# Altium footprint library IC_SMD_DUAL.PCBLIB: 187 footprints (part 12 of 12)
Each footprint in its own frame and in the unit in brackets; x right, y up, seen from the top. Pads: shape width x height; smd on the part's side, far side on the other; paste and mask are expansions set on the pad; w line width, h text height; cw(c..) or ccw(c..) is an arc to the next point about the centre after c.
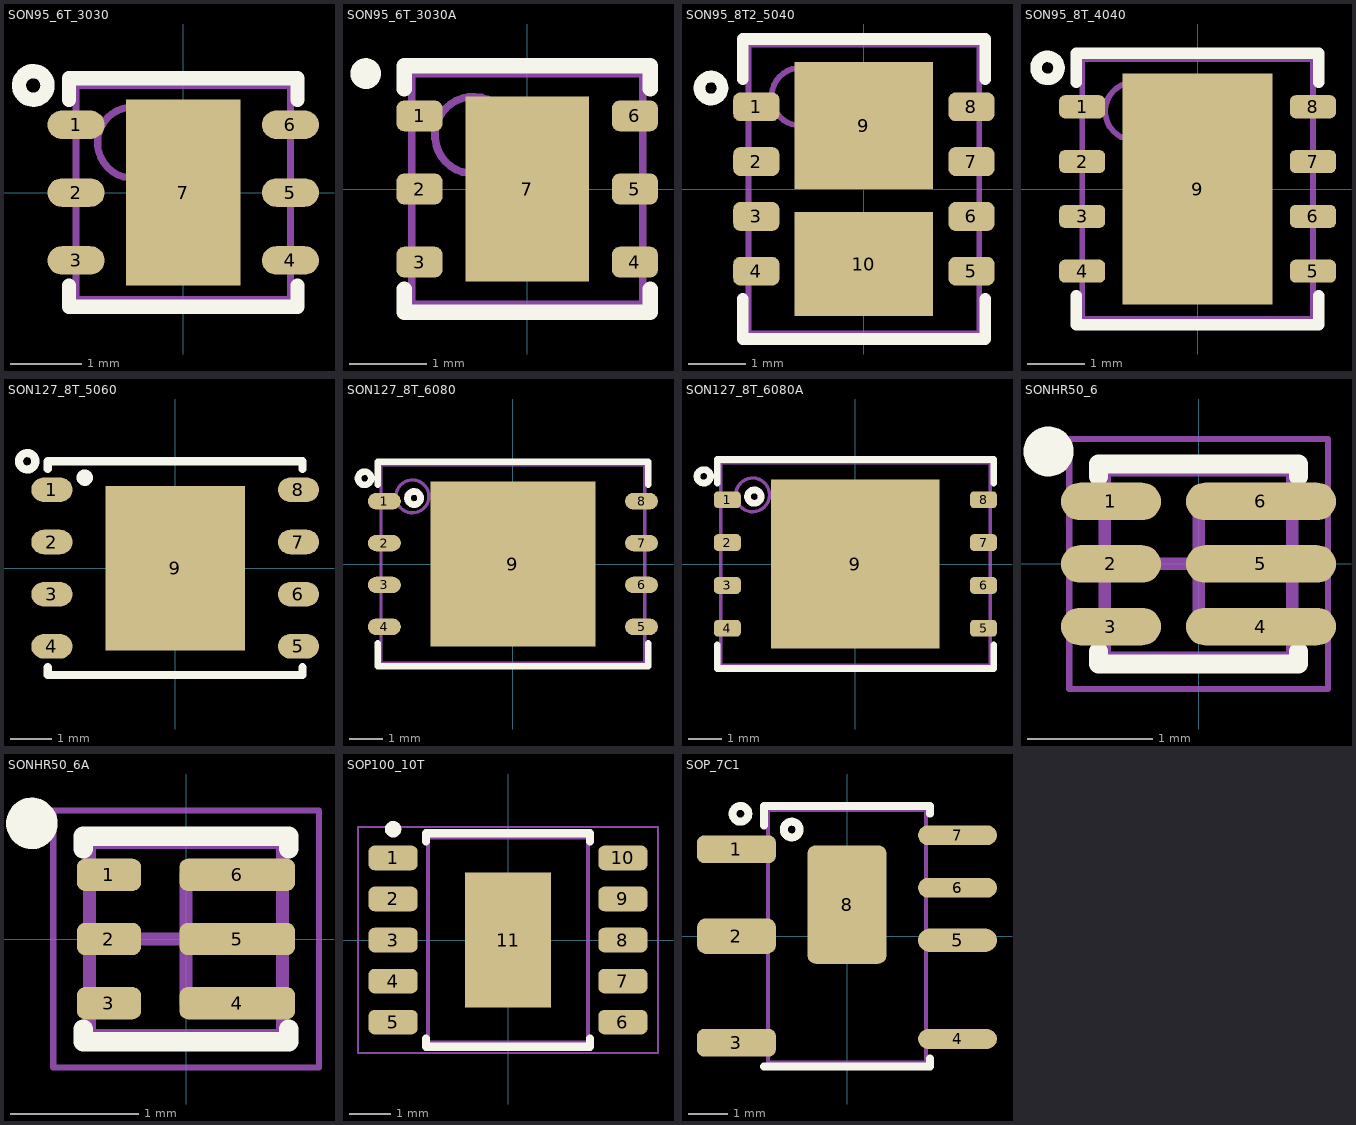
[diagram p11: the footprints below, top view; thin cyan lines are the x and y axes]

## SON95_6T_3030 [mm] "Pitch: 0.95mm 3x3x1.1mm"
height 1.1
pads (7):
  oval 0.8x0.4 smd: 1(-1.5,0.95) 2(-1.5,0) 3(-1.5,-0.95) 4(1.5,-0.95) 5(1.5,0) 6(1.5,0.95)
  rect 1.6x2.6 smd paste-3: 7(0,0)
TopOverlay:
  circle w0.2: c-2.1,1.5 r0.2
  lines w0.2: -1.6,-1.3 -1.6,-1.6 1.6,-1.6 1.6,-1.3 ; -1.6,1.3 -1.6,1.6 1.6,1.6 1.6,1.3
TopPaste:
  rectangle: 0.1,-1.2 0.7,-0.2
  rectangle: 0.1,0.2 0.7,1.2
  rectangle: -0.7,-1.2 -0.1,-0.2
  rectangle: -0.7,0.2 -0.1,1.2
Mechanical13:
  circle w0.1: c-0.7,0.7 r0.5
  lines w0.1: -1.5,-1.5 -1.5,1.5 1.5,1.5 1.5,-1.5 -1.5,-1.5
Mechanical15:
  lines w0.1: -0.5,0 0.5,0 ; 0,-0.5 0,0.5
3D body "User Library-dfn6_3x3_rm0_95.step": height 0.8, standoff 0, extent -1.55,-1.5 1.55,1.5

## SON95_6T_3030A [mm] "Pitch: 0.95mm 3x3x1.1mm"
height 1.1
pads (7):
  rrect50% 0.6x0.4 smd mask+0.075: 1(-1.4,0.95) 2(-1.4,0) 3(-1.4,-0.95) 4(1.4,-0.95) 5(1.4,0) 6(1.4,0.95)
  rect 1.6x2.4 smd paste-3: 7(0,0)
TopOverlay:
  circle w0.2: c-2.1,1.5 r0.1
  lines w0.2: -1.6,-1.3 -1.6,-1.6 1.6,-1.6 1.6,-1.3 ; -1.6,1.3 -1.6,1.6 1.6,1.6 1.6,1.3
TopPaste:
  rectangle: -0.7,0.1 -0.1,1.1
  rectangle: -0.7,-1.1 -0.1,-0.1
  rectangle: 0.1,0.1 0.7,1.1
  rectangle: 0.1,-1.1 0.7,-0.1
Mechanical13:
  circle w0.1: c-0.7,0.7 r0.5
  lines w0.1: -1.5,-1.5 1.5,-1.5 1.5,1.5 -1.5,1.5 -1.5,-1.5
Mechanical15:
  lines w0.1: -0.5,0 0.5,0 ; 0,-0.5 0,0.5
3D body "User Library-dfn6_3x3_rm0_95.step": height 0.8, standoff 0, extent -1.55,-1.5 1.55,1.5

## SON95_8T2_5040 [mm] "5x4A DFN-8, 0.95mm pitch, 5X4X0.8mm"
height 0.8
pads (10):
  rrect50% 0.8x0.5 smd mask+0.075: 1(-1.865,1.425) 2(-1.865,0.475) 3(-1.865,-0.475) 4(-1.865,-1.425) 5(1.865,-1.425) 6(1.865,-0.475) 7(1.865,0.475) 8(1.865,1.425)
  rect 2.4x2.2 smd paste-1.19 mask+0.075: 9(0,1.1)
  rect 2.4x1.8 smd paste-1.19 mask+0.075: 10(0,-1.3)
TopOverlay:
  circle w0.2: c-2.65,1.75 r0.2
  lines w0.2: -2.1,-1.9 -2.1,-2.6 2.1,-2.6 2.1,-1.9 ; -2.1,1.9 -2.1,2.6 2.1,2.6 2.1,1.9
TopPaste:
  rectangle: 0.1,0.1 1.1,0.5
  region: -0.1,0.5 -1.1,0.5 -1.1,0.1 -0.1,0.1
  region: -0.1,-1.4 -1.1,-1.4 -1.1,-2.1 -0.1,-2.1
  region: -0.1,-0.5 -1.1,-0.5 -1.1,-1.2 -0.1,-1.2
  rectangle: 0.1,-1.2 1.1,-0.5
  rectangle: 0.1,-2.1 1.1,-1.4
  region: -0.1,1.5 -1.1,1.5 -1.1,0.7 -0.1,0.7
  rectangle: 0.1,0.7 1.1,1.5
  region: -0.1,2.1 -1.1,2.1 -1.1,1.7 -0.1,1.7
  rectangle: 0.1,1.7 1.1,2.1
Mechanical13:
  circle w0.1: c-1.1,1.6 r0.5
  lines w0.1: -2,-2.5 2,-2.5 2,2.5 -2,2.5 -2,-2.5
3D body "SON95_8T2_5040.step": height 0.8, standoff 0, extent -2.001,-2.5 2.001,2.5

## SON95_8T_4040 [mm] "DFN-8, SON, pitch 0.95mm, 4X4.5X0.75mm"
height 0.75
pads (9):
  rrect50% 0.8x0.4 smd: 1(-2,1.425) 2(-2,0.475) 3(-2,-0.475) 4(-2,-1.425) 5(2,-1.425) 6(2,-0.475) 7(2,0.475) 8(2,1.425)
  rect 2.6x4 smd paste-4: 9(0,0)
TopOverlay:
  circle w0.2: c-2.6,2.1 r0.2
  lines w0.2: -2.1,-1.85 -2.1,-2.35 2.1,-2.35 2.1,-1.85 ; -2.1,1.85 -2.1,2.35 2.1,2.35 2.1,1.85
TopPaste:
  rectangle: 0.2,-1.8 1.1,-0.2
  region: -0.2,-0.2 -1.1,-0.2 -1.1,-1.8 -0.2,-1.8
  region: -0.2,1.8 -1.1,1.8 -1.1,0.2 -0.2,0.2
  rectangle: 0.2,0.2 1.1,1.8
Mechanical13:
  circle w0.1: c-1.1,1.35 r0.5
  lines w0.1: -2,-2.25 2,-2.25 2,2.25 -2,2.25 -2,-2.25
3D body "SON127P600-8N.step": height 0.75, standoff 0, extent -2.05,-2.25 2.05,2.25

## SON127_8T_5060 [mm] "WSON8_6X5"
pads (9):
  oval 1x0.6 smd: 1(-3,1.905) 2(-3,0.635) 3(-3,-0.635) 4(-3,-1.905) 5(3,-1.905) 6(3,-0.635) 7(3,0.635) 8(3,1.905)
  rect 3.4x4 smd paste-5: 9(0,0)
TopOverlay:
  circle w0.2: c-2.2,2.2 r0.1
  circle w0.2: c-3.6,2.6 r0.2
  lines w0.2: -3.1,-2.413 -3.1,-2.6 3.1,-2.6 3.1,-2.413 ; -3.1,2.413 -3.1,2.6 3.1,2.6 3.1,2.413
TopPaste:
  rectangle: -1.5,-1.8 -0.2,-0.2
  region: 1.5,-0.2 0.2,-0.2 0.2,-1.8 1.5,-1.8
  region: 1.5,1.8 0.2,1.8 0.2,0.2 1.5,0.2
  rectangle: -1.5,0.2 -0.2,1.8
3D body "SON127P600-8N.step": height 1, standoff 0, extent -3.05,-2.5 3.05,2.5

## SON127_8T_6080 [mm] "WSON 8, 6X8, pitch: 1.27mm"
height 0.8
pads (9):
  oval 1x0.5 smd: 1(-3.9,1.905) 2(-3.9,0.635) 3(-3.9,-0.635) 4(-3.9,-1.905) 5(3.9,-1.905) 6(3.9,-0.635) 7(3.9,0.635) 8(3.9,1.905)
  rect 5x5 smd paste-5: 9(0,0)
TopOverlay:
  circle w0.2: c-3,2 r0.2
  circle w0.2: c-4.5,2.6 r0.2
  lines w0.2: -4.1,-2.4 -4.1,-3.1 4.1,-3.1 4.1,-2.4 ; -4.1,2.4 -4.1,3.1 4.1,3.1 4.1,2.4
TopPaste:
  rectangle: -1.9,1 -0.9,2
  rectangle: -0.5,1 0.5,2
  rectangle: 1,1 2,2
  region: -0.9,-0.5 -0.9,0.5 -1.9,0.5 -1.9,-0.5
  region: -0.9,-1.9 -0.9,-0.9 -1.9,-0.9 -1.9,-1.9
  region: 0.5,-0.5 0.5,0.5 -0.5,0.5 -0.5,-0.5
  region: 0.5,-1.9 0.5,-0.9 -0.5,-0.9 -0.5,-1.9
  region: 2,-0.5 2,0.5 1,0.5 1,-0.5
  region: 2,-1.9 2,-0.9 1,-0.9 1,-1.9
Mechanical13:
  circle w0.1: c-3.05,2.05 r0.5
  lines w0.1: -4,-3 4,-3 4,3 -4,3 -4,-3
3D body "User Library-WSON-8_6x8mm.STEP": height 0.81, standoff -0.07, extent -4,-3 4,3

## SON127_8T_6080A [mm] "WSON 8, 6X8, pitch: 1.27mm"
height 0.8
pads (9):
  rrect50% 0.8x0.5 smd: 1(-3.8,1.905) 2(-3.8,0.635) 3(-3.8,-0.635) 4(-3.8,-1.905) 5(3.8,-1.905) 6(3.8,-0.635) 7(3.8,0.635) 8(3.8,1.905)
  rect 5x5 smd paste-3: 9(0,0)
TopOverlay:
  circle w0.2: c-3,2 r0.2
  circle w0.2: c-4.5,2.6 r0.2
  lines w0.2: -4.1,-2.4 -4.1,-3.1 4.1,-3.1 4.1,-2.4 ; -4.1,2.4 -4.1,3.1 4.1,3.1 4.1,2.4
TopPaste:
  rectangle: -1.9,1 -0.9,2
  rectangle: -0.5,1 0.5,2
  rectangle: 1,1 2,2
  region: -0.9,-0.5 -0.9,0.5 -1.9,0.5 -1.9,-0.5
  region: -0.9,-1.9 -0.9,-0.9 -1.9,-0.9 -1.9,-1.9
  region: 0.5,-0.5 0.5,0.5 -0.5,0.5 -0.5,-0.5
  region: 0.5,-1.9 0.5,-0.9 -0.5,-0.9 -0.5,-1.9
  region: 2,-0.5 2,0.5 1,0.5 1,-0.5
  region: 2,-1.9 2,-0.9 1,-0.9 1,-1.9
Mechanical13:
  circle w0.1: c-3.05,2.05 r0.5
  lines w0.1: -4,-3 4,-3 4,3 -4,3 -4,-3
3D body "User Library-WSON-8_6x8mm.STEP": height 0.81, standoff -0.07, extent -4,-3 4,3

## SONHR50_6 [mm] "VSON-HR, 6, DMQ, 0.5mm pitch, 1.5x1.5mm"
height 1
pads (6):
  oval 0.8x0.3 smd mask+0.05: 1(-0.7,0.5) 2(-0.7,0) 3(-0.7,-0.5)
  oval 1.2x0.3 smd mask+0.05: 4(0.5,-0.5) 5(0.5,0) 6(0.5,0.5)
TopOverlay:
  circle w0.2: c-1.2,0.9 r0.1
  lines w0.15: -0.8,-0.7 -0.8,-0.8 0.8,-0.8 0.8,-0.7 ; -0.8,0.7 -0.8,0.8 0.8,0.8 0.8,0.7
Mechanical13:
  lines w0.1: -0.75,-0.75 -0.75,0.75 0.75,0.75 0.75,-0.75 -0.75,-0.75
Mechanical15:
  lines w0.05: -1.035,-1 -1.035,1 1.035,1 1.035,-1 -1.035,-1
  lines w0.1: -0.5,0 0.5,0 ; 0,-0.5 0,0.5
3D body "SONHR50_6.step": height 1, standoff 0, extent -0.751,-0.75 0.751,0.75

## SONHR50_6A [mm] "VSON-HR, 6, DMQ, 0.5mm pitch, 1.5x1.5mm"
height 1
pads (6):
  rrect50% 0.5x0.25 smd mask+0.05: 1(-0.6,0.5) 2(-0.6,0) 3(-0.6,-0.5)
  rrect50% 0.9x0.25 smd mask+0.05: 4(0.4,-0.5) 5(0.4,0) 6(0.4,0.5)
TopOverlay:
  circle w0.2: c-1.2,0.9 r0.1
  lines w0.15: -0.8,-0.7 -0.8,-0.8 0.8,-0.8 0.8,-0.7 ; -0.8,0.7 -0.8,0.8 0.8,0.8 0.8,0.7
Mechanical13:
  lines w0.1: -0.75,-0.75 -0.75,0.75 0.75,0.75 0.75,-0.75 -0.75,-0.75
Mechanical15:
  lines w0.05: -1.035,-1 -1.035,1 1.035,1 1.035,-1 -1.035,-1
  lines w0.1: -0.5,0 0.5,0 ; 0,-0.5 0,0.5
3D body "SONHR50_6.step": height 1, standoff 0, extent -0.751,-0.75 0.751,0.75

## SOP100_10T [mm] "ESSOP-10, 1mm pitch"
height 1.6
pads (11):
  rrect50% 1.2x0.6 smd: 1(-2.8,2) 2(-2.8,1) 3(-2.8,0) 4(-2.8,-1) 5(-2.8,-2) 6(2.8,-2) 7(2.8,-1) 8(2.8,0) 9(2.8,1) 10(2.8,2)
  rect 2.1x3.3 smd paste-3: 11(0,0)
TopOverlay:
  circle w0.2: c-2.8,2.7 r0.1
  lines w0.2: -2,-2.4 -2,-2.6 2,-2.6 2,-2.4 ; -2,2.4 -2,2.6 2,2.6 2,2.4
TopPaste:
  region: 0.664,-1.044 -0.664,-1.044 -0.664,1.044 0.664,1.044
Mechanical13:
  lines w0.1: -1.95,-2.5 1.95,-2.5 1.95,2.5 -1.95,2.5 -1.95,-2.5
Mechanical15:
  lines w0.05: -3.655,-2.75 3.655,-2.75 3.655,2.75 -3.655,2.75 -3.655,-2.75
3D body "CH340K--3DModel-STEP-269445.STEP": height 1.6, standoff 0, extent -3,-2.5 3,2.5

## SOP_7C1 [mm] "SOP-7 custom1 KP18001WPA"
height 1.8
pads (8):
  rrect50% 2x0.7 smd: 1(-2.8,2.2) 3(-2.8,-2.7)
  rrect50% 2x0.9 smd: 2(-2.8,0)
  oval 2x0.5 smd: 4(2.8,-2.605) 6(2.8,1.225) 7(2.8,2.555)
  oval 2x0.6 smd: 5(2.8,-0.105)
  rrect20% 2x3 smd: 8(0,0.8)
TopOverlay:
  circle w0.2: c-1.4,2.7 r0.2
  circle w0.2: c-2.7,3.1 r0.2
  lines w0.2: -2.1,-3.3 2.1,-3.3 2.1,-3.1 ; -2.1,2.8 -2.1,3.3 2.1,3.3 2.1,3.1
Mechanical13:
  lines w0.1: -2,-3.2 -2,3.2 2,3.2 2,-3.2 -2,-3.2
3D body: height 1.25, standoff 0, extent -2,-3.2 2,3.2